# EAGLE library part V23105-A5305-A201 (library realatka)
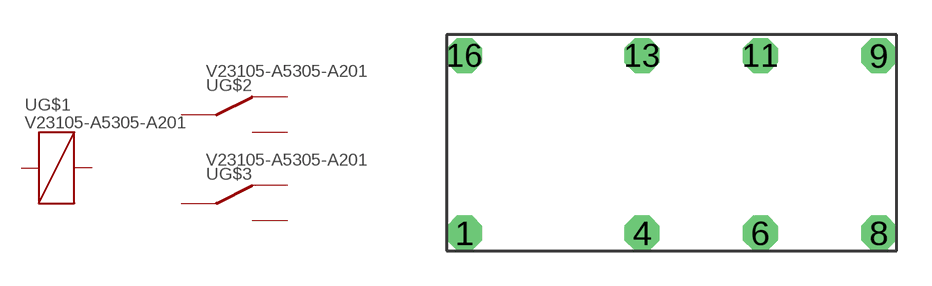
[diagram p0: symbol with the pads of V23105-A5305-A201; footprint V23105-A5305-A201]

Designator prefix -; gates G$1=RELAY_COIL G$2=RELAY_3P G$3=RELAY_3P

## V23105-A5305-A201  [V23105-A5305-A201]
1  G$1:C$1  in
4  G$2:1
6  G$2:2
8  G$2:3
9  G$3:3
11  G$3:2
13  G$3:1
16  G$1:C$2  in

## Footprint V23105-A5305-A201 (pad centres in mm)
drill 1 octagon: 1 -11.43,-5.08; 4 -3.81,-5.08; 6 1.27,-5.08; 8 6.35,-5.08; 9 6.35,2.54; 11 1.27,2.54; 13 -3.81,2.54; 16 -11.43,2.54